# Altium schematic symbol library RES 100k 1_8W - 1%.Schlib: 1 symbol
Pins are listed as number, name and electrical type; pins without a type are passive.

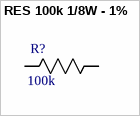
[diagram p0: symbol RES 100k 1/8W - 1%]

## RES 100k 1/8W - 1%
designator R?, comment 100k
RES SMD 100K OHM 1% 1/8W 0805
pins: 1 R1, 2 R2